# EAGLE library part К1464УД1 (library operational-amplifier)
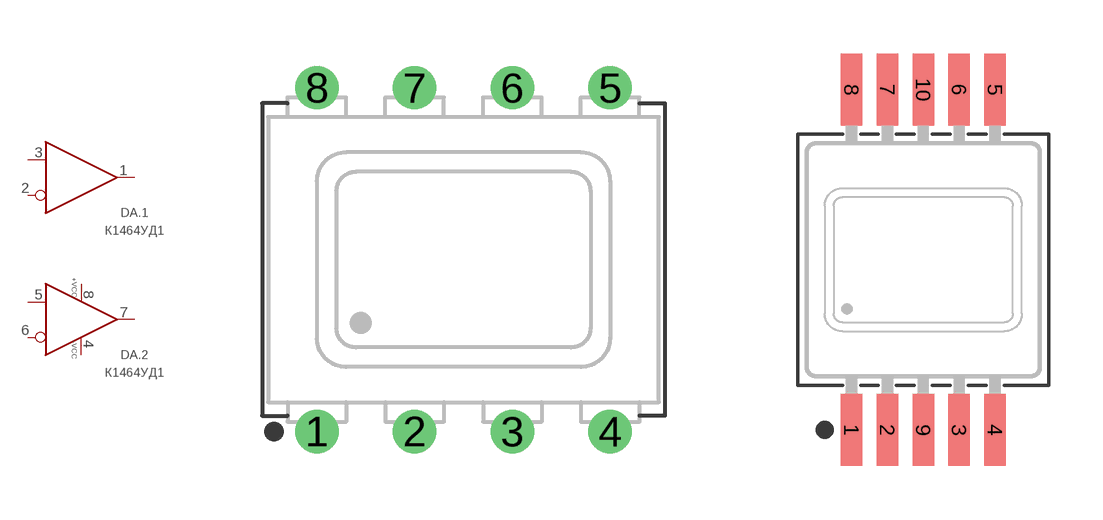
[diagram p12: symbol with the pads of 2101.8-7; footprints 2101.8-7, H02.8-1B]

Designator prefix DA; gates .1=OPERATIONAL-AMPLIFIER-SIMPLE .2=OPERATIONAL-AMPLIFIER-SIMPLE G$1=POWER_2

## К1464УД1Р1  [2101.8-7]
1  .1:OUT  out
2  .1:!IN  in
3  .1:IN  in
4  G$1:-VCC  pwr
5  .2:IN  in
6  .2:!IN  in
7  .2:OUT  out
8  G$1:+VCC  pwr

## К1464УД1Т1  [H02.8-1B]
Pads as for 2101.8-7

## Footprint 2101.8-7 (pad centres in mm)
drill 0.6: 1 -3.75,-4.4; 2 -1.25,-4.4; 3 1.25,-4.4; 4 3.75,-4.4; 5 3.75,4.4; 6 1.25,4.4; 7 -1.25,4.4; 8 -3.75,4.4

## Footprint H02.8-1B (pad centres in mm)
smd 0.6 x 2: 1 -2,-4.75; 2 -1,-4.75; 3 1,-4.75; 4 2,-4.75; 5 2,4.75; 6 1,4.75; 7 -1,4.75; 8 -2,4.75; 9 0,-4.75; 10 0,4.75